# Altium schematic symbol library Standard LED.SchLib: 1 symbol
Pins are listed as number, name and electrical type; pins without a type are passive.

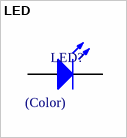
[diagram p0: symbol LED]

## LED
designator LED?  value (Color)
Standard 0805 LED; Manufacturer: Wuerth Elektronik; PackageReference: 0805_A; ComponentLink2URL: *; ComponentLink1URL: *; ComponentLink2Description: Datasheet; ComponentLink1Description: Manufacturer URL; PartNumber: *
footprint 0805_A (Chip LED, 2-Leads, Body 2.0x1.3mm, IPC Medium Density)
pins: 1 K, 2 A